# EAGLE library part ESP32-S2-WROOM (library wireless)
WiFi Modules (802.11) SMD module, ESP32-S2, 4 MB SPI flash, PCB antenna Source: Datasheet <https://www.mouser.de/datasheet/2/891/esp32_s2_wroom_esp32_s2_wroom_i_datasheet_en-1799809.pdf>
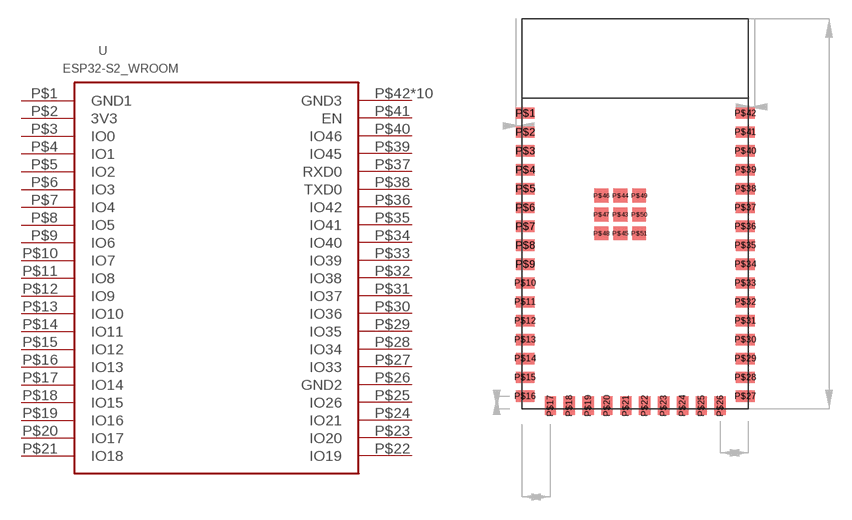
[diagram p2: symbol with the pads of ESP32S2WROOM; footprint ESP32S2WROOM]

Designator prefix U

## ESP32-S2-WROOM  [ESP32S2WROOM]
P$1  GND1
P$2  3V3
P$3  IO0
P$4  IO1
P$5  IO2
P$6  IO3
P$7  IO4
P$8  IO5
P$9  IO6
P$10  IO7
P$11  IO8
P$12  IO9
P$13  IO10
P$14  IO11
P$15  IO12
P$16  IO13
P$17  IO14
P$18  IO15
P$19  IO16
P$20  IO17
P$21  IO18
P$22  IO19
P$23  IO20
P$24  IO21
P$25  IO26
P$26  GND2  pwr
P$27  IO33
P$28  IO34
P$29  IO35
P$30  IO36
P$31  IO37
P$32  IO38
P$33  IO39
P$34  IO40
P$35  IO41
P$36  IO42
P$37  RXD0
P$38  TXD0
P$39  IO45
P$40  IO46  in
P$41  EN  in
P$42  GND3  pwr
P$43  GND3  pwr
P$44  GND3  pwr
P$45  GND3  pwr
P$46  GND3  pwr
P$47  GND3  pwr
P$48  GND3  pwr
P$49  GND3  pwr
P$50  GND3  pwr
P$51  GND3  pwr

## Footprint ESP32S2WROOM (pad centres in mm)
ESP32-S2-WROOM
smd 1.5 x 0.9: P$1 -8.75,0; P$2 -8.75,-1.5; P$3 -8.75,-3; P$4 -8.75,-4.5; P$5 -8.75,-6; P$6 -8.75,-7.5; P$7 -8.75,-9; P$8 -8.75,-10.5; P$9 -8.75,-12; P$10 -8.75,-13.5; P$11 -8.75,-15; P$12 -8.75,-16.5; P$13 -8.75,-18; P$14 -8.75,-19.5; P$15 -8.75,-21; P$16 -8.75,-22.5; P$27 8.75,-22.5; P$28 8.75,-21; P$29 8.75,-19.5; P$30 8.75,-18; P$31 8.75,-16.5; P$32 8.75,-15; P$33 8.75,-13.5; P$34 8.75,-12; P$35 8.75,-10.5; P$36 8.75,-9; P$37 8.75,-7.5; P$38 8.75,-6; P$39 8.75,-4.5; P$40 8.75,-3; P$41 8.75,-1.5; P$42 8.75,0
smd 0.9 x 1.5: P$17 -6.75,-23.25; P$18 -5.25,-23.25; P$19 -3.75,-23.25; P$20 -2.25,-23.25; P$21 -0.75,-23.25; P$22 0.75,-23.25; P$23 2.25,-23.25; P$24 3.75,-23.25; P$25 5.25,-23.25; P$26 6.75,-23.25
smd 1.1 x 1.1: P$43 -1.19,-8.05; P$44 -1.19,-6.55; P$45 -1.19,-9.55; P$46 -2.69,-6.55; P$47 -2.69,-8.05; P$48 -2.69,-9.55; P$49 0.31,-6.55; P$50 0.31,-8.05; P$51 0.31,-9.55